# Altium footprint library WCAP-FTX2.PcbLib: 44 footprints (part 1 of 3)
Each footprint in its own frame and in the unit in brackets; x right, y up, seen from the top. Pads: shape width x height; smd on the part's side, far side on the other; paste and mask are expansions set on the pad; w line width, h text height; cw(c..) or ccw(c..) is an arc to the next point about the centre after c.
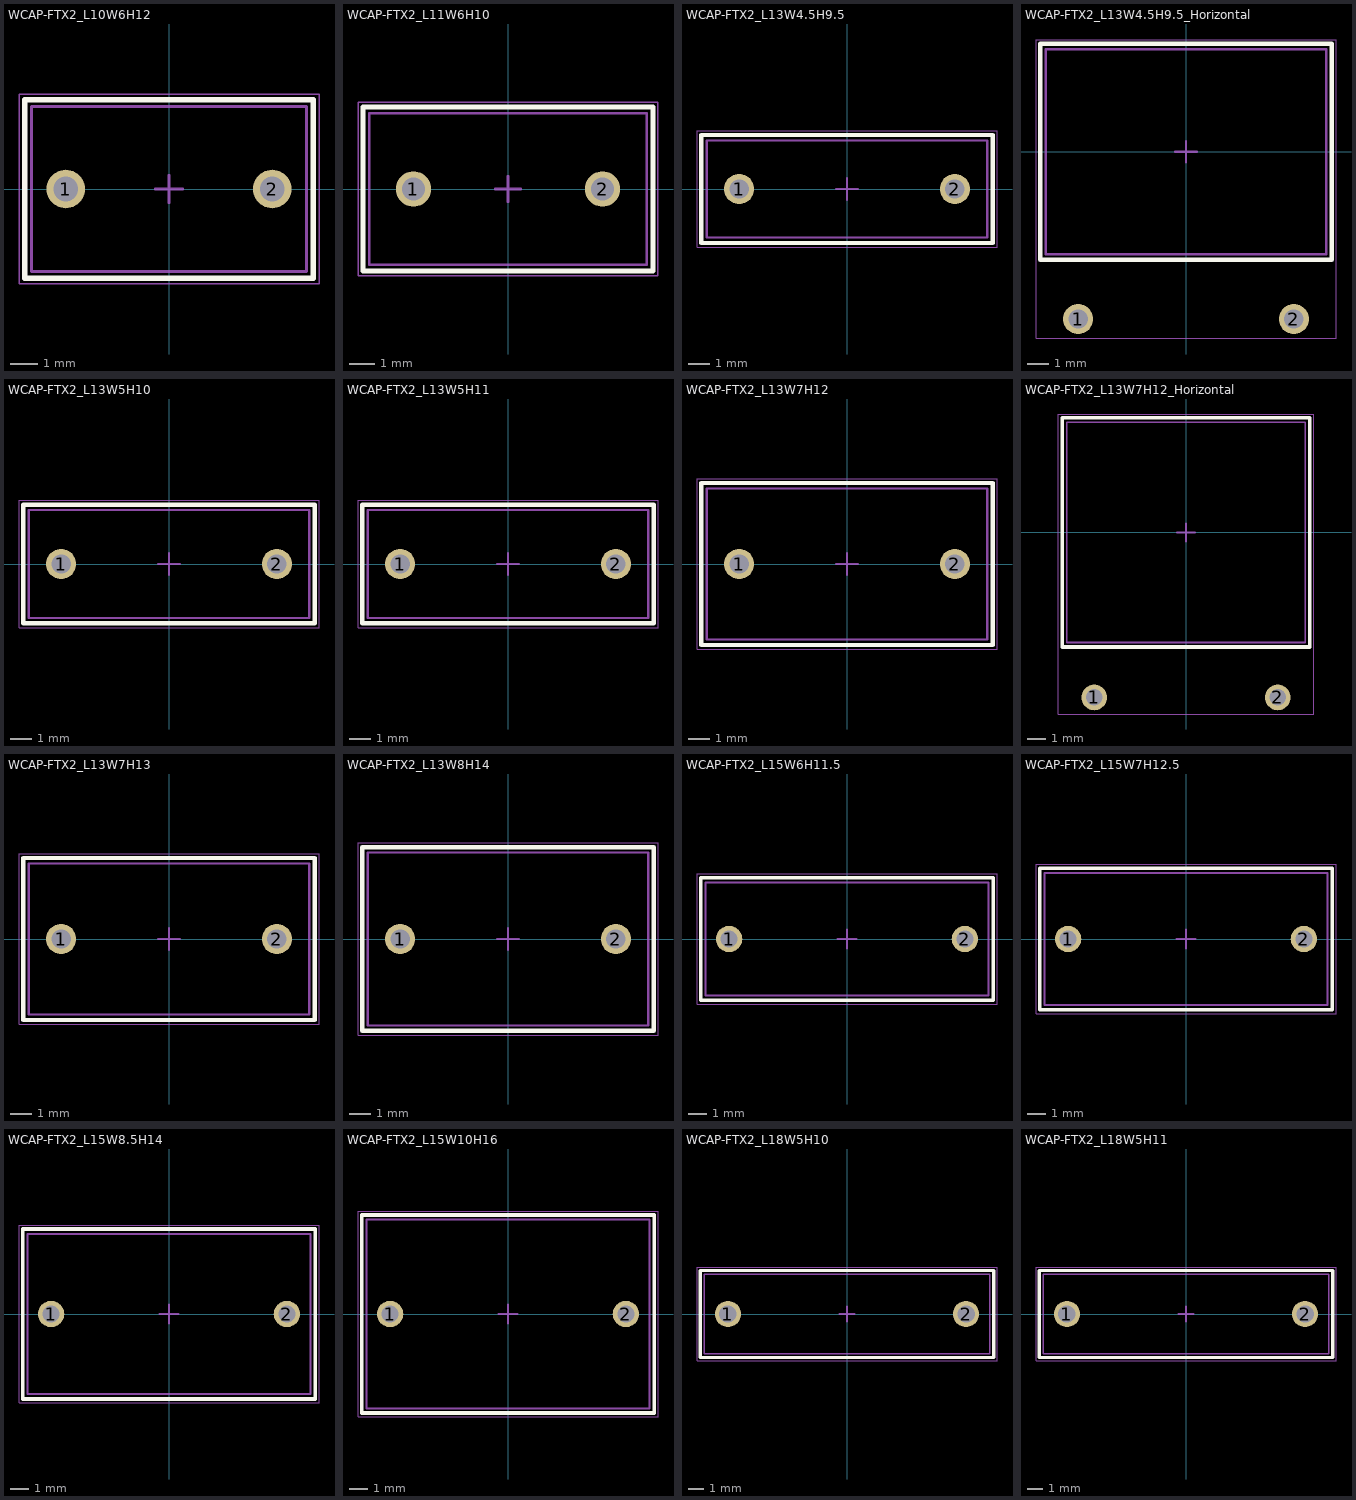
[diagram p0: the footprints below, top view; thin cyan lines are the x and y axes]

## WCAP-FTX2_L10W6H12 [mm] "Film Capacitors, 10x6x12mm"
height 12
pads (2):
  round 1.4 hole 0.9: 1(-3.75,0) 2(3.75,0)
Top Overlay:
  lines w0.2: -5.25,-3.25 -5.25,3.25 5.25,3.25 5.25,-3.25 -5.25,-3.25
Top Assembly:
  lines w0.1: -5.25,-3.25 -5.25,3.25 5.25,3.25 5.25,-3.25 -5.25,-3.25
Top Designator:
  text ".Designator" at -3.647,-0.357 h1
Top 3D Body:
  lines w0.1: -5,-3 -5,3 5,3 5,-3 -5,-3
Top Courtyard:
  lines w0.05: -5.45,-3.45 -5.45,3.45 5.45,3.45 5.45,-3.45 -5.45,-3.45
Top Component Center:
  lines w0.1: -0.5,0 0.5,0 ; 0,-0.5 0,0.5
3D body "Download_STP_890324022017xx_rev1.stp": height 12.2, standoff -3.8, extent -5,-3 5,3

## WCAP-FTX2_L11W6H10 [mm] "Film Capacitors, 11x6x10mm"
height 10
pads (2):
  round 1.4 hole 0.9: 1(-3.75,0) 2(3.75,0)
Top Overlay:
  lines w0.2: -5.75,-3.25 -5.75,3.25 5.75,3.25 5.75,-3.25 -5.75,-3.25
Top Assembly:
  lines w0.1: -5.75,-3.25 -5.75,3.25 5.75,3.25 5.75,-3.25 -5.75,-3.25
Top Designator:
  text ".Designator" at -3.647,-0.357 h1
Top 3D Body:
  lines w0.1: -5.5,-3 -5.5,3 5.5,3 5.5,-3 -5.5,-3
Top Courtyard:
  lines w0.05: -5.95,-3.45 -5.95,3.45 5.95,3.45 5.95,-3.45 -5.95,-3.45
Top Component Center:
  lines w0.1: -0.5,0 0.5,0 ; 0,-0.5 0,0.5
3D body "7,5x11x6x10.stp": height 10.2, standoff -3.8, extent -5.5,-3 5.5,3

## WCAP-FTX2_L13W4.5H9.5 [mm] "Film Capacitors, 13x4.5x9.5mm"
height 9.5
pads (2):
  round 1.4 hole 0.9: 1(-5,0) 2(5,0)
Top Overlay:
  lines w0.2: -6.75,-2.5 -6.75,2.5 6.75,2.5 6.75,-2.5 -6.75,-2.5
Top Assembly:
  lines w0.1: -6.75,-2.5 -6.75,2.5 6.75,2.5 6.75,-2.5 -6.75,-2.5
Top Designator:
  text ".Designator" at -3.647,-0.357 h1
Top 3D Body:
  lines w0.1: -6.5,-2.25 -6.5,2.25 6.5,2.25 6.5,-2.25 -6.5,-2.25
Top Courtyard:
  lines w0.05: -6.95,-2.7 -6.95,2.7 6.95,2.7 6.95,-2.7 -6.95,-2.7
Top Component Center:
  lines w0.1: -0.5,0 0.5,0 ; 0,-0.5 0,0.5
3D body "10x13x4,5x9,5.stp": height 9.7, standoff -3.8, extent -6.5,-2.25 6.5,2.25

## WCAP-FTX2_L13W4.5H9.5_Horizontal [mm] "Film Capacitors, 13x4.5x9.5mm"
height 4.5
pads (2):
  round 1.4 hole 0.9: 1(-5,-7.75) 2(5,-7.75)
Top Overlay:
  lines w0.2: -6.75,-5 6.75,-5 6.75,5 -6.75,5 -6.75,-5
Top Assembly:
  lines w0.1: -6.75,-5 6.75,-5 6.75,5 -6.75,5 -6.75,-5
Top Designator:
  text ".Designator" at -3.647,-0.357 h1
Top 3D Body:
  lines w0.1: -6.5,-4.75 6.5,-4.75 6.5,4.75 -6.5,4.75 -6.5,-4.75
Top Courtyard:
  lines w0.05: -6.95,-8.65 6.95,-8.65 6.95,5.2 -6.95,5.2 -6.95,-8.65
Top Component Center:
  lines w0.1: -0.5,0 0.5,0 ; 0,-0.5 0,0.5
3D body "10x13x4,5x9,5_BP.stp": height 4.55, standoff -2.45, extent -6.5,-8.05 6.5,4.75

## WCAP-FTX2_L13W5H10 [mm] "Film Capacitors, 13x5x10mm"
height 10
pads (2):
  round 1.4 hole 0.9: 1(-5,0) 2(5,0)
Top Overlay:
  lines w0.2: -6.75,-2.75 6.75,-2.75 6.75,2.75 -6.75,2.75 -6.75,-2.75
Top Assembly:
  lines w0.1: -6.75,-2.75 6.75,-2.75 6.75,2.75 -6.75,2.75 -6.75,-2.75
Top Designator:
  text ".Designator" at -3.647,-0.357 h1
Top 3D Body:
  lines w0.1: -6.5,-2.5 6.5,-2.5 6.5,2.5 -6.5,2.5 -6.5,-2.5
Top Courtyard:
  lines w0.05: -6.95,-2.95 6.95,-2.95 6.95,2.95 -6.95,2.95 -6.95,-2.95
Top Component Center:
  lines w0.1: -0.5,0 0.5,0 ; 0,-0.5 0,0.5
3D body "10x13x5x10.stp": height 10.2, standoff -3.8, extent -6.5,-2.5 6.5,2.5

## WCAP-FTX2_L13W5H11 [mm] "Film Capacitors, 13x5x11mm"
height 11
pads (2):
  round 1.4 hole 0.9: 1(-5,0) 2(5,0)
Top Overlay:
  lines w0.2: -6.75,-2.75 6.75,-2.75 6.75,2.75 -6.75,2.75 -6.75,-2.75
Top Assembly:
  lines w0.1: -6.75,-2.75 -6.75,2.75 6.75,2.75 6.75,-2.75 -6.75,-2.75
Top Designator:
  text ".Designator" at -3.647,-0.357 h1
Top 3D Body:
  lines w0.1: -6.5,-2.5 -6.5,2.5 6.5,2.5 6.5,-2.5 -6.5,-2.5
Top Courtyard:
  lines w0.05: -6.95,-2.95 6.95,-2.95 6.95,2.95 -6.95,2.95 -6.95,-2.95
Top Component Center:
  lines w0.1: -0.5,0 0.5,0 ; 0,-0.5 0,0.5
3D body "10x13x5x11.stp": height 11.2, standoff -3.8, extent -6.5,-2.5 6.5,2.5

## WCAP-FTX2_L13W7H12 [mm] "Film Capacitors, 13x7x12mm"
height 12
pads (2):
  round 1.4 hole 0.9: 1(-5,0) 2(5,0)
Top Overlay:
  lines w0.2: -6.75,-3.75 -6.75,3.75 6.75,3.75 6.75,-3.75 -6.75,-3.75
Top Assembly:
  lines w0.1: -6.75,-3.75 6.75,-3.75 6.75,3.75 -6.75,3.75 -6.75,-3.75
Top Designator:
  text ".Designator" at -3.647,-0.357 h1
Top 3D Body:
  lines w0.1: -6.5,-3.5 6.5,-3.5 6.5,3.5 -6.5,3.5 -6.5,-3.5
Top Courtyard:
  lines w0.05: -6.95,-3.95 -6.95,3.95 6.95,3.95 6.95,-3.95 -6.95,-3.95
Top Component Center:
  lines w0.1: -0.5,0 0.5,0 ; 0,-0.5 0,0.5
3D body "10x13x7x12.stp": height 12.2, standoff -3.8, extent -6.5,-3.5 6.5,3.5

## WCAP-FTX2_L13W7H12_Horizontal [mm] "Film Capacitors, 13x7x12mm"
height 7
pads (2):
  round 1.4 hole 0.9: 1(-5,-9) 2(5,-9)
Top Overlay:
  lines w0.2: -6.75,-6.25 -6.75,6.25 6.75,6.25 6.75,-6.25 -6.75,-6.25
Top Assembly:
  lines w0.1: -6.75,-6.25 6.75,-6.25 6.75,6.25 -6.75,6.25 -6.75,-6.25
Top Designator:
  text ".Designator" at -3.647,-0.357 h1
Top 3D Body:
  lines w0.1: -6.5,-6 6.5,-6 6.5,6 -6.5,6 -6.5,-6
Top Courtyard:
  lines w0.05: -6.95,-9.9 -6.95,6.45 6.95,6.45 6.95,-9.9 -6.95,-9.9
Top Component Center:
  lines w0.1: -0.5,0 0.5,0 ; 0,-0.5 0,0.5
3D body "10x13x7x12.stp": height 7.1, standoff -3.4, extent -6.5,-9.3 6.5,6

## WCAP-FTX2_L13W7H13 [mm] "Film Capacitors, 13x7x13mm"
height 13
pads (2):
  round 1.4 hole 0.9: 1(-5,0) 2(5,0)
Top Overlay:
  lines w0.2: -6.75,-3.75 -6.75,3.75 6.75,3.75 6.75,-3.75 -6.75,-3.75
Top Assembly:
  lines w0.1: -6.75,-3.75 6.75,-3.75 6.75,3.75 -6.75,3.75 -6.75,-3.75
Top Designator:
  text ".Designator" at -3.647,-0.357 h1
Top 3D Body:
  lines w0.1: -6.5,-3.5 -6.5,3.5 6.5,3.5 6.5,-3.5 -6.5,-3.5
Top Courtyard:
  lines w0.05: -6.95,-3.95 -6.95,3.95 6.95,3.95 6.95,-3.95 -6.95,-3.95
Top Component Center:
  lines w0.1: -0.5,0 0.5,0 ; 0,-0.5 0,0.5
3D body "10x13x7x13.stp": height 13.2, standoff -3.8, extent -6.5,-3.5 6.5,3.5

## WCAP-FTX2_L13W8H14 [mm] "Film Capacitors, 13x8x14mm"
height 14
pads (2):
  round 1.4 hole 0.9: 1(-5,0) 2(5,0)
Top Overlay:
  lines w0.2: -6.75,-4.25 6.75,-4.25 6.75,4.25 -6.75,4.25 -6.75,-4.25
Top Assembly:
  lines w0.1: -6.75,-4.25 6.75,-4.25 6.75,4.25 -6.75,4.25 -6.75,-4.25
Top Designator:
  text ".Designator" at -3.647,-0.357 h1
Top 3D Body:
  lines w0.1: -6.5,-4 6.5,-4 6.5,4 -6.5,4 -6.5,-4
Top Courtyard:
  lines w0.05: -6.95,-4.45 6.95,-4.45 6.95,4.45 -6.95,4.45 -6.95,-4.45
Top Component Center:
  lines w0.1: -0.5,0 0.5,0 ; 0,-0.5 0,0.5
3D body "10x13x8x14.stp": height 14.2, standoff -3.8, extent -6.5,-4 6.5,4

## WCAP-FTX2_L15W6H11.5 [mm] "Film Capacitors, 15x6x11.5mm"
height 11.5
pads (2):
  round 1.4 hole 0.9: 1(-6.25,0) 2(6.25,0)
Top Overlay:
  lines w0.2: -7.75,-3.25 7.75,-3.25 7.75,3.25 -7.75,3.25 -7.75,-3.25
Top Assembly:
  lines w0.1: -7.75,-3.25 7.75,-3.25 7.75,3.25 -7.75,3.25 -7.75,-3.25
Top Designator:
  text ".Designator" at -3.647,-0.357 h1
Top 3D Body:
  lines w0.1: -7.5,-3 7.5,-3 7.5,3 -7.5,3 -7.5,-3
Top Courtyard:
  lines w0.05: -7.95,-3.45 7.95,-3.45 7.95,3.45 -7.95,3.45 -7.95,-3.45
Top Component Center:
  lines w0.1: -0.5,0 0.5,0 ; 0,-0.5 0,0.5
3D body "12,5x15x6x11,5.stp": height 11.7, standoff -3.8, extent -7.5,-3 7.5,3

## WCAP-FTX2_L15W7H12.5 [mm] "Film Capacitors, 15x7x12.5mm"
height 12.5
pads (2):
  round 1.4 hole 0.9: 1(-6.25,0) 2(6.25,0)
Top Overlay:
  lines w0.2: -7.75,-3.75 7.75,-3.75 7.75,3.75 -7.75,3.75 -7.75,-3.75
Top Assembly:
  lines w0.1: -7.75,-3.75 -7.75,3.75 7.75,3.75 7.75,-3.75 -7.75,-3.75
Top Designator:
  text ".Designator" at -3.647,-0.357 h1
Top 3D Body:
  lines w0.1: -7.5,-3.5 -7.5,3.5 7.5,3.5 7.5,-3.5 -7.5,-3.5
Top Courtyard:
  lines w0.05: -7.95,-3.95 7.95,-3.95 7.95,3.95 -7.95,3.95 -7.95,-3.95
Top Component Center:
  lines w0.1: -0.5,0 0.5,0 ; 0,-0.5 0,0.5
3D body "12,5x15x7x12,5.stp": height 12.7, standoff -3.8, extent -7.5,-3.5 7.5,3.5

## WCAP-FTX2_L15W8.5H14 [mm] "Film Capacitors, 15x8.5x14mm"
height 14
pads (2):
  round 1.4 hole 0.9: 1(-6.25,0) 2(6.25,0)
Top Overlay:
  lines w0.2: -7.75,-4.5 -7.75,4.5 7.75,4.5 7.75,-4.5 -7.75,-4.5
Top Assembly:
  lines w0.1: -7.75,-4.5 -7.75,4.5 7.75,4.5 7.75,-4.5 -7.75,-4.5
Top Designator:
  text ".Designator" at -3.647,-0.357 h1
Top 3D Body:
  lines w0.1: -7.5,-4.25 -7.5,4.25 7.5,4.25 7.5,-4.25 -7.5,-4.25
Top Courtyard:
  lines w0.05: -7.95,-4.7 -7.95,4.7 7.95,4.7 7.95,-4.7 -7.95,-4.7
Top Component Center:
  lines w0.1: -0.5,0 0.5,0 ; 0,-0.5 0,0.5
3D body "12,5x15x8,5x14.stp": height 14.2, standoff -3.8, extent -7.5,-4.25 7.5,4.25

## WCAP-FTX2_L15W10H16 [mm] "Film Capacitors, 15x10x16mm"
height 16
pads (2):
  round 1.4 hole 0.9: 1(-6.25,0) 2(6.25,0)
Top Overlay:
  lines w0.2: -7.75,-5.25 -7.75,5.25 7.75,5.25 7.75,-5.25 -7.75,-5.25
Top Assembly:
  lines w0.1: -7.75,-5.25 -7.75,5.25 7.75,5.25 7.75,-5.25 -7.75,-5.25
Top Designator:
  text ".Designator" at -3.647,-0.357 h1
Top 3D Body:
  lines w0.1: -7.5,-5 -7.5,5 7.5,5 7.5,-5 -7.5,-5
Top Courtyard:
  lines w0.05: -7.95,-5.45 -7.95,5.45 7.95,5.45 7.95,-5.45 -7.95,-5.45
Top Component Center:
  lines w0.1: -0.5,0 0.5,0 ; 0,-0.5 0,0.5
3D body "12,5x15x10x16.stp": height 16.2, standoff -3.8, extent -7.5,-5 7.5,5

## WCAP-FTX2_L18W5H10 [mm] "Film Capacitors, 18x5x10mm"
height 10
pads (2):
  round 1.65 hole 1.1: 1(-7.5,0) 2(7.5,0)
Top Overlay:
  lines w0.2: -9.25,-2.75 -9.25,2.75 9.25,2.75 9.25,-2.75 -9.25,-2.75
Top Assembly:
  lines w0.1: -9.25,-2.75 9.25,-2.75 9.25,2.75 -9.25,2.75 -9.25,-2.75
Top Designator:
  text ".Designator" at -3.647,-0.357 h1
Top 3D Body:
  lines w0.1: -9,-2.5 9,-2.5 9,2.5 -9,2.5 -9,-2.5
Top Courtyard:
  lines w0.05: -9.45,-2.95 -9.45,2.95 9.45,2.95 9.45,-2.95 -9.45,-2.95
Top Component Center:
  lines w0.1: -0.5,0 0.5,0 ; 0,-0.5 0,0.5
3D body "15x18x5x10.stp": height 10.05, standoff -3.95, extent -9,-2.5 9,2.5

## WCAP-FTX2_L18W5H11 [mm] "Film Capacitors, 18x5x11mm"
height 11
pads (2):
  round 1.65 hole 1.1: 1(-7.5,0) 2(7.5,0)
Top Overlay:
  lines w0.2: -9.25,-2.75 9.25,-2.75 9.25,2.75 -9.25,2.75 -9.25,-2.75
Top Assembly:
  lines w0.1: -9.25,-2.75 -9.25,2.75 9.25,2.75 9.25,-2.75 -9.25,-2.75
Top Designator:
  text ".Designator" at -3.647,-0.357 h1
Top 3D Body:
  lines w0.1: -9,-2.5 -9,2.5 9,2.5 9,-2.5 -9,-2.5
Top Courtyard:
  lines w0.05: -9.45,-2.95 9.45,-2.95 9.45,2.95 -9.45,2.95 -9.45,-2.95
Top Component Center:
  lines w0.1: -0.5,0 0.5,0 ; 0,-0.5 0,0.5
3D body "15x18x5x11.stp": height 11.2, standoff -3.8, extent -9,-2.5 9,2.5